# EAGLE library part 74LVC1G373DBVRE4 (library 74LVC1G373DBVRE4)
IC SNGL D-TYPE LATCH SOT23-6 Source: Datasheet <http://www.ti.com/general/docs/suppproductinfo.tsp?distId=10&gotoUrl=http://www.ti.com/lit/gpn/sn74lvc1g373>
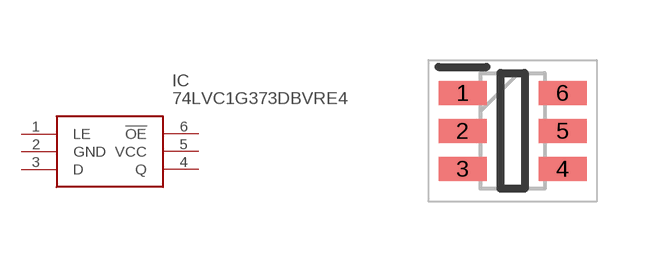
[diagram p0: symbol with the pads of SOT95P280X145-6N; footprint SOT95P280X145-6N]

Designator prefix IC

## 74LVC1G373DBVRE4 (Description: IC SNGL D-TYPE LATCH SOT23-6; Height: 1.45mm; Manufacturer_Name: Texas Instruments; Manufacturer_Part_Number: 74LVC1G373DBVRE4; Mouser_Part_Number: 595-74LVC1G373DBVRE4; Mouser_Price-Stock: https://www.mouser.co.uk/ProductDetail/Texas-Instruments/74LVC1G373DBVRE4?qs=pajgIaoyDUixBk1O2Qp78w%3D%3D)  [SOT95P280X145-6N]
1  LE
2  GND
3  D
4  Q
5  VCC
6  !OE

## Footprint SOT95P280X145-6N (pad centres in mm)
SOT-23-6
smd 1.2 x 0.6: 1 -1.25,0.95; 2 -1.25,0; 3 -1.25,-0.95; 4 1.25,-0.95; 5 1.25,0; 6 1.25,0.95